# Altium footprint library SH1.0.PcbLib: 18 footprints (part 2 of 2)
Each footprint in its own frame and in the unit in brackets; x right, y up, seen from the top. Pads: shape width x height; smd on the part's side, far side on the other; paste and mask are expansions set on the pad; w line width, h text height; cw(c..) or ccw(c..) is an arc to the next point about the centre after c.
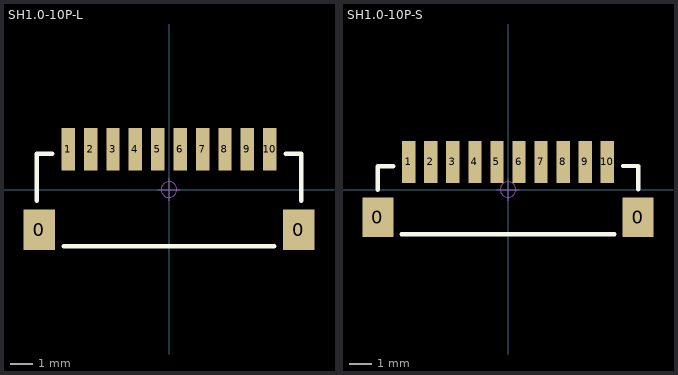
[diagram p1: the footprints below, top view; thin cyan lines are the x and y axes]

## SH1.0-10P-L [mm]
pads (12):
  rect 1.4x1.8 smd: 0(-5.8,-1.8) 0(5.8,-1.8)
  rect 0.6x1.9 smd: 1(-4.5,1.8) 2(-3.5,1.8) 3(-2.5,1.8) 4(-1.5,1.8) 5(-0.5,1.8) 6(0.5,1.8) 7(1.5,1.8) 8(2.5,1.8) 9(3.5,1.8) 10(4.5,1.8)
Top Overlay:
  lines w0.2: -5.9,-0.508 -5.9,1.6 -5.207,1.6 ; -4.699,-2.54 4.699,-2.54 ; 5.207,1.6 5.9,1.6 5.9,-0.508
Mechanical 15:
  circle w0.05: c0,0 r0.35
  lines w0.05: -0.5,0 0.5,0 ; 0,-0.5 0,0.5
3D body "SM10B-SRSS-TB.STEP": height 2.96, standoff 0, extent -6,-2.794 6,2.156

## SH1.0-10P-S [mm]
pads (12):
  rect 1.4x1.8 smd: 0(-5.9,-1.25) 0(5.9,-1.25)
  rect 0.6x1.9 smd: 1(-4.5,1.25) 2(-3.5,1.25) 3(-2.5,1.25) 4(-1.5,1.25) 5(-0.5,1.25) 6(0.5,1.25) 7(1.5,1.25) 8(2.5,1.25) 9(3.5,1.25) 10(4.5,1.25)
Top Overlay:
  lines w0.2: -5.9,0 -5.9,1.05 -5.207,1.05 ; -4.826,-2.032 4.826,-2.032 ; 5.212,1.067 5.905,1.067 5.905,0.017
Mechanical 15:
  circle w0.05: c0,0 r0.35
  lines w0.05: -0.5,0 0.5,0 ; 0,-0.5 0,0.5
3D body "BM10B-SRSS-TB.STEP": height 4.31, standoff -0.01, extent -6,-2.286 6,1.314